# Altium schematic symbol library SCH - POWER - SWITCHMODE - TI LM5165.Schlib: 1 symbol
Pins are listed as number, name and electrical type; pins without a type are passive.

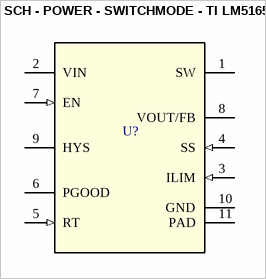
[diagram p0: symbol SCH - POWER - SWITCHMODE - TI LM5165]

## SCH - POWER - SWITCHMODE - TI LM5165
designator U?
footprint DRC0010J
pins: 1 SW (power), 2 VIN (power), 3 ILIM (in), 4 SS (in), 5 RT (in), 6 PGOOD (oc), 7 EN (in), 8 VOUT/FB, 9 HYS, 10 GND (power), 11 PAD (power)